# EAGLE library part CH340G (library CH340)
CH340-USB-UART SOP16 Fa.CDS Electronics
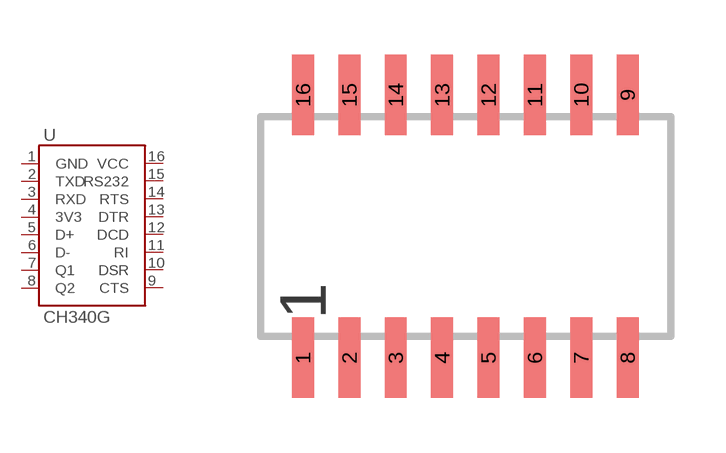
[diagram p0: symbol with the pads of SOP16; footprint SOP16]

Designator prefix -

## CH340G  [SOP16]
1  GND
2  TXD
3  RXD
4  3V3
5  D+
6  D-
7  Q1
8  Q2
9  CTS
10  DSR
11  RI
12  DCD
13  DTR
14  RTS
15  RS232
16  VCC

## Footprint SOP16 (pad centres in mm)
SMALL OUTLINE PACKAGE
smd 0.6 x 2.2: 1 -4.445,-3.6; 2 -3.175,-3.6; 3 -1.905,-3.6; 4 -0.635,-3.6; 5 0.635,-3.6; 6 1.905,-3.6; 7 3.175,-3.6; 8 4.445,-3.6; 9 4.445,3.6; 10 3.175,3.6; 11 1.905,3.6; 12 0.635,3.6; 13 -0.635,3.6; 14 -1.905,3.6; 15 -3.175,3.6; 16 -4.445,3.6